# EAGLE library part 114020164 (library 114020164)
Seeed Studio Accessories Grove Female Header - SMD-4P-2.0mm-90D-20Pcs Source: Datasheet <https://files.seeedstudio.com/products/114020164/res/Grove Female Header - SMD-4P-2.0mm-90D Datasheet.pdf>
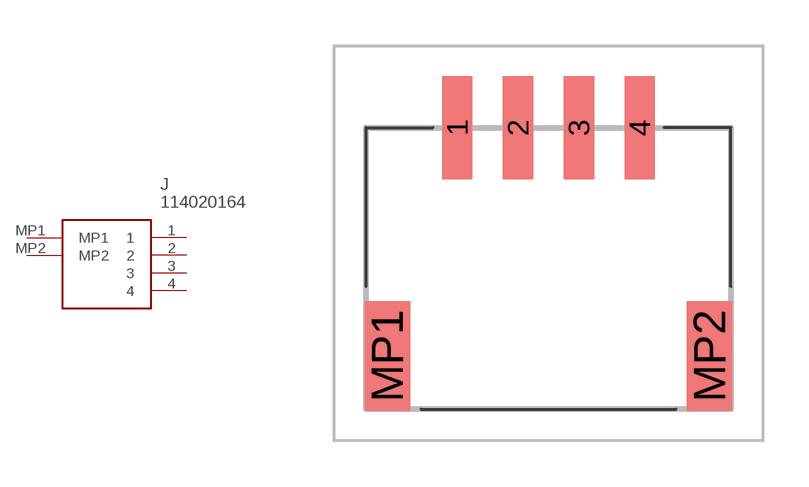
[diagram p0: symbol with the pads of 114020164; footprint 114020164]

Designator prefix J

## 114020164 (Description: Seeed Studio Accessories Grove Female Header - SMD-4P-2.0mm-90D-20Pcs; Height: 5.45mm; Manufacturer_Name: Seeed Studio; Manufacturer_Part_Number: 114020164; Mouser_Part_Number: 713-114020164; Mouser_Price-Stock: https://www.mouser.co.uk/ProductDetail/Seeed-Studio/114020164?qs=7MVldsJ5Uayw%2FOfizq4F8w%3D%3D)  [114020164]
1  1
2  2
3  3
4  4
MP1  MP1
MP2  MP2

## Footprint 114020164 (pad centres in mm)
114020164-2
smd 1 x 3.4: 1 -3,3.8; 2 -1,3.8; 3 1,3.8; 4 3,3.8
smd 1.5 x 3.6: MP1 -5.3,-3.7; MP2 5.3,-3.7